# Altium footprint library BOURNS_2300.PcbLib: 1 footprints
Each footprint in its own frame and in the unit in brackets; x right, y up, seen from the top. Pads: shape width x height; smd on the part's side, far side on the other; paste and mask are expansions set on the pad; w line width, h text height; cw(c..) or ccw(c..) is an arc to the next point about the centre after c.
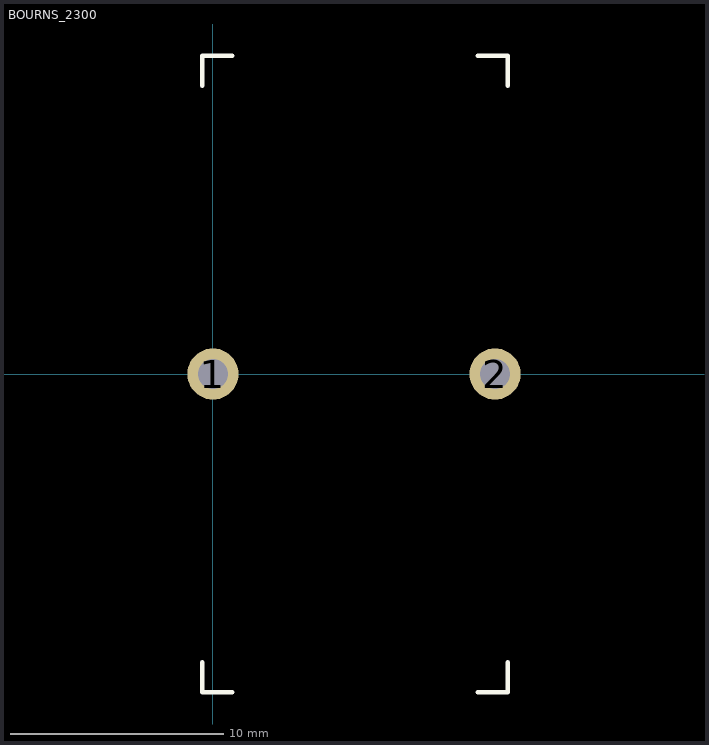
[diagram p0: the footprint, top view; thin cyan lines are the x and y axes]

## BOURNS_2300 [mm] "Bourns 2300 series inductors"
pads (2):
  round 2.4 hole 1.4: 1(0,0) 2(13.208,0)
Top Overlay:
  lines w0.2: -0.5,-13.5 -0.5,-14.9 0.9,-14.9 ; -0.5,13.5 -0.5,14.9 0.9,14.9 ; 12.4,-14.9 13.8,-14.9 13.8,-13.5 ; 12.4,14.9 13.8,14.9 13.8,13.5
3D body "2312-v-rc.stp": height 29.88, standoff -12.58, extent -0.5,-14.884 13.775,14.884